# EAGLE library part MCP6549-I/ST (library ruark2)
Comparator General Purpose CMOS, 1uA power, 10pA bias, 7mV offset, Open-Drain, Rail-to-Rail, TTL 14-TSSOP
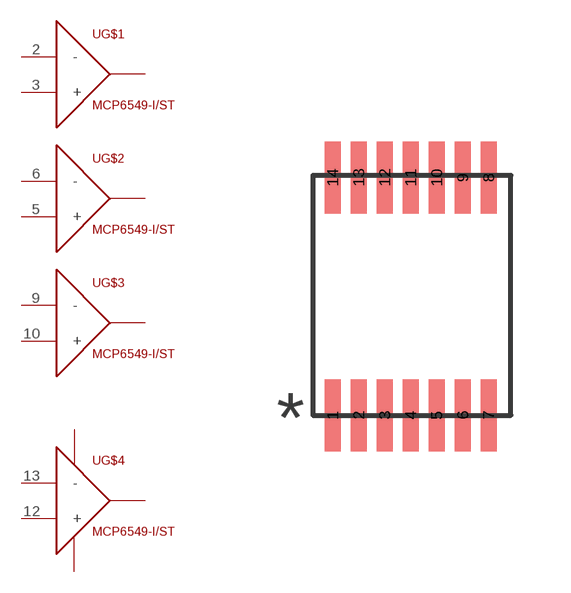
[diagram p66: symbol with the pads of TSSOP14; footprint TSSOP14]

Designator prefix U; gates G$1=COMPARATOR G$2=COMPARATOR G$3=COMPARATOR G$4=COMPARATOR_POWERED

## MCP6549-I/ST (PARTNO: MCP6549-I/ST-ND)  [TSSOP14]
1  G$1:OUT
2  G$1:-
3  G$1:+
4  G$4:VCC
5  G$2:+
6  G$2:-
7  G$2:OUT
8  G$3:OUT
9  G$3:-
10  G$3:+
11  G$4:VSS
12  G$4:+
13  G$4:-
14  G$4:OUT

## Footprint TSSOP14 (pad centres in mm)
smd 0.4 x 1.8: 1 -2.54,-2.54; 2 -1.89,-2.54; 3 -1.24,-2.54; 4 -0.59,-2.54; 5 0.06,-2.54; 6 0.71,-2.54; 7 1.36,-2.54; 8 1.36,3.41; 9 0.71,3.41; 10 0.06,3.41; 11 -0.59,3.41; 12 -1.24,3.41; 13 -1.89,3.41; 14 -2.54,3.41